# Altium footprint library IC_TPS25974ARPWR (1).PcbLib: 1 footprints
Each footprint in its own frame and in the unit in brackets; x right, y up, seen from the top. Pads: shape width x height; smd on the part's side, far side on the other; paste and mask are expansions set on the pad; w line width, h text height; cw(c..) or ccw(c..) is an arc to the next point about the centre after c.
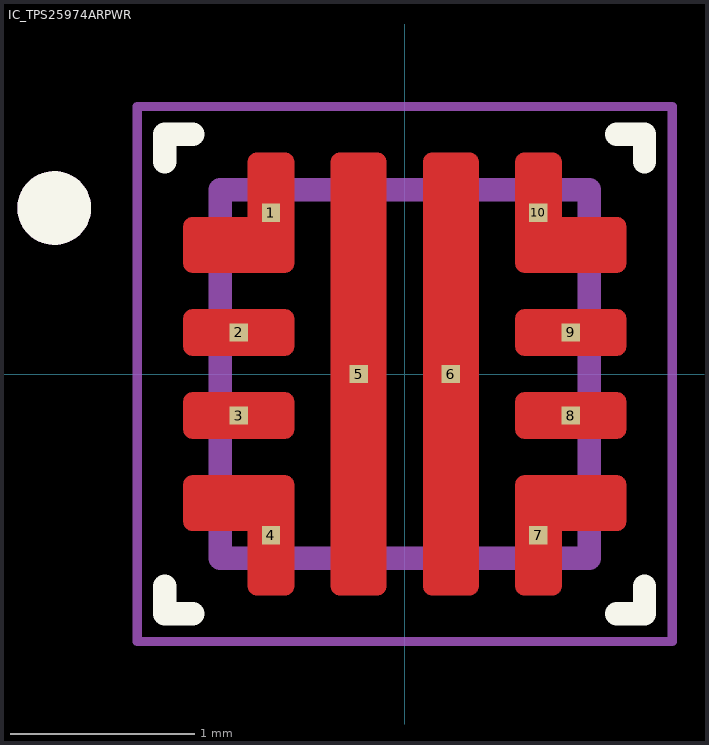
[diagram p0: the footprint, top view; thin cyan lines are the x and y axes]

## IC_TPS25974ARPWR [mm]
pads (10):
  rect 0.1x0.1 smd paste-1 mask+0: 1(-0.725,0.875) 2(-0.9,0.225) 3(-0.9,-0.225) 4(-0.725,-0.875) 5(-0.25,0) 6(0.25,0) 7(0.725,-0.875) 8(0.9,-0.225) 9(0.9,0.225) 10(0.725,0.875)
Top Layer:
  region: 0.358,1.199 0.36,1.199 0.363,1.198 0.365,1.198 0.368,1.197 0.37,1.196 0.373,1.195 0.375,1.193 0.377,1.192 0.379,1.19 0.381,1.189 0.383,1.187 0.385,1.185 0.387,1.183 0.389,1.181 0.39,1.179 0.392,1.177 0.393,1.175 0.395,1.173 0.396,1.17 0.397,1.168 0.398,1.165 0.398,1.163 0.399,1.16 0.399,1.158 0.4,1.155 0.4,1.153 0.4,1.15 0.4,-1.15 0.4,-1.153 0.4,-1.155 0.399,-1.158 0.399,-1.16 0.398,-1.163 0.398,-1.165 0.397,-1.168 0.396,-1.17 0.395,-1.173 0.393,-1.175 0.392,-1.177 0.39,-1.179 0.389,-1.181 0.387,-1.183 0.385,-1.185 0.383,-1.187 0.381,-1.189 0.379,-1.19 0.377,-1.192 0.375,-1.193 0.373,-1.195 0.37,-1.196 0.368,-1.197 0.365,-1.198 0.363,-1.198 0.36,-1.199 0.358,-1.199 0.355,-1.2 0.145,-1.2 0.142,-1.199 0.14,-1.199 0.137,-1.198 0.135,-1.198 0.132,-1.197 0.13,-1.196 0.127,-1.195 0.125,-1.193 0.123,-1.192 0.121,-1.19 0.119,-1.189 0.117,-1.187 0.115,-1.185 0.113,-1.183 0.111,-1.181 0.11,-1.179 0.108,-1.177 0.107,-1.175 0.105,-1.173 0.104,-1.17 0.103,-1.168 0.102,-1.165 0.102,-1.163 0.101,-1.16 0.101,-1.158 0.1,-1.155 0.1,-1.153 0.1,-1.15 0.1,1.15 0.1,1.153 0.1,1.155 0.101,1.158 0.101,1.16 0.102,1.163 0.102,1.165 0.103,1.168 0.104,1.17 0.105,1.173 0.107,1.175 0.108,1.177 0.11,1.179 0.111,1.181 0.113,1.183 0.115,1.185 0.117,1.187 0.119,1.189 0.121,1.19 0.123,1.192 0.125,1.193 0.127,1.195 0.13,1.196 0.132,1.197 0.135,1.198 0.137,1.198 0.14,1.199 0.142,1.199 0.145,1.2 0.355,1.2
  region: -0.142,1.199 -0.14,1.199 -0.137,1.198 -0.135,1.198 -0.132,1.197 -0.13,1.196 -0.127,1.195 -0.125,1.193 -0.123,1.192 -0.121,1.19 -0.119,1.189 -0.117,1.187 -0.115,1.185 -0.113,1.183 -0.111,1.181 -0.11,1.179 -0.108,1.177 -0.107,1.175 -0.105,1.173 -0.104,1.17 -0.103,1.168 -0.102,1.165 -0.102,1.163 -0.101,1.16 -0.101,1.158 -0.1,1.155 -0.1,1.153 -0.1,1.15 -0.1,-1.15 -0.1,-1.153 -0.1,-1.155 -0.101,-1.158 -0.101,-1.16 -0.102,-1.163 -0.102,-1.165 -0.103,-1.168 -0.104,-1.17 -0.105,-1.173 -0.107,-1.175 -0.108,-1.177 -0.11,-1.179 -0.111,-1.181 -0.113,-1.183 -0.115,-1.185 -0.117,-1.187 -0.119,-1.189 -0.121,-1.19 -0.123,-1.192 -0.125,-1.193 -0.127,-1.195 -0.13,-1.196 -0.132,-1.197 -0.135,-1.198 -0.137,-1.198 -0.14,-1.199 -0.142,-1.199 -0.145,-1.2 -0.355,-1.2 -0.358,-1.199 -0.36,-1.199 -0.363,-1.198 -0.365,-1.198 -0.368,-1.197 -0.37,-1.196 -0.373,-1.195 -0.375,-1.193 -0.377,-1.192 -0.379,-1.19 -0.381,-1.189 -0.383,-1.187 -0.385,-1.185 -0.387,-1.183 -0.389,-1.181 -0.39,-1.179 -0.392,-1.177 -0.393,-1.175 -0.395,-1.173 -0.396,-1.17 -0.397,-1.168 -0.398,-1.165 -0.398,-1.163 -0.399,-1.16 -0.399,-1.158 -0.4,-1.155 -0.4,-1.153 -0.4,-1.15 -0.4,1.15 -0.4,1.153 -0.4,1.155 -0.399,1.158 -0.399,1.16 -0.398,1.163 -0.398,1.165 -0.397,1.168 -0.396,1.17 -0.395,1.173 -0.393,1.175 -0.392,1.177 -0.39,1.179 -0.389,1.181 -0.387,1.183 -0.385,1.185 -0.383,1.187 -0.381,1.189 -0.379,1.19 -0.377,1.192 -0.375,1.193 -0.373,1.195 -0.37,1.196 -0.368,1.197 -0.365,1.198 -0.363,1.198 -0.36,1.199 -0.358,1.199 -0.355,1.2 -0.145,1.2
  region: -0.642,-0.551 -0.64,-0.551 -0.637,-0.552 -0.635,-0.552 -0.632,-0.553 -0.63,-0.554 -0.627,-0.555 -0.625,-0.557 -0.623,-0.558 -0.621,-0.56 -0.619,-0.561 -0.617,-0.563 -0.615,-0.565 -0.613,-0.567 -0.611,-0.569 -0.61,-0.571 -0.608,-0.573 -0.607,-0.575 -0.605,-0.577 -0.604,-0.58 -0.603,-0.582 -0.602,-0.585 -0.602,-0.587 -0.601,-0.59 -0.601,-0.592 -0.6,-0.595 -0.6,-0.597 -0.6,-0.6 -0.6,-1.15 -0.6,-1.153 -0.6,-1.155 -0.601,-1.158 -0.601,-1.16 -0.602,-1.163 -0.602,-1.165 -0.603,-1.168 -0.604,-1.17 -0.605,-1.173 -0.607,-1.175 -0.608,-1.177 -0.61,-1.179 -0.611,-1.181 -0.613,-1.183 -0.615,-1.185 -0.617,-1.187 -0.619,-1.189 -0.621,-1.19 -0.623,-1.192 -0.625,-1.193 -0.627,-1.195 -0.63,-1.196 -0.632,-1.197 -0.635,-1.198 -0.637,-1.198 -0.64,-1.199 -0.642,-1.199 -0.645,-1.2 -0.805,-1.2 -0.808,-1.199 -0.81,-1.199 -0.813,-1.198 -0.815,-1.198 -0.818,-1.197 -0.82,-1.196 -0.823,-1.195 -0.825,-1.193 -0.827,-1.192 -0.829,-1.19 -0.831,-1.189 -0.833,-1.187 -0.835,-1.185 -0.837,-1.183 -0.839,-1.181 -0.84,-1.179 -0.842,-1.177 -0.843,-1.175 -0.845,-1.173 -0.846,-1.17 -0.847,-1.168 -0.848,-1.165 -0.848,-1.163 -0.849,-1.16 -0.849,-1.158 -0.85,-1.155 -0.85,-1.153 -0.85,-1.15 -0.85,-0.85 -1.155,-0.85 -1.158,-0.849 -1.16,-0.849 -1.163,-0.848 -1.165,-0.848 -1.168,-0.847 -1.17,-0.846 -1.173,-0.845 -1.175,-0.843 -1.177,-0.842 -1.179,-0.84 -1.181,-0.839 -1.183,-0.837 -1.185,-0.835 -1.187,-0.833 -1.189,-0.831 -1.19,-0.829 -1.192,-0.827 -1.193,-0.825 -1.195,-0.823 -1.196,-0.82 -1.197,-0.818 -1.198,-0.815 -1.198,-0.813 -1.199,-0.81 -1.199,-0.808 -1.2,-0.805 -1.2,-0.803 -1.2,-0.8 -1.2,-0.6 -1.2,-0.597 -1.2,-0.595 -1.199,-0.592 -1.199,-0.59 -1.198,-0.587 -1.198,-0.585 -1.197,-0.582 -1.196,-0.58 -1.195,-0.577 -1.193,-0.575 -1.192,-0.573 -1.19,-0.571 -1.189,-0.569 -1.187,-0.567 -1.185,-0.565 -1.183,-0.563 -1.181,-0.561 -1.179,-0.56 -1.177,-0.558 -1.175,-0.557 -1.173,-0.555 -1.17,-0.554 -1.168,-0.553 -1.165,-0.552 -1.163,-0.552 -1.16,-0.551 -1.158,-0.551 -1.155,-0.55 -0.645,-0.55
  region: 0.808,1.199 0.81,1.199 0.813,1.198 0.815,1.198 0.818,1.197 0.82,1.196 0.823,1.195 0.825,1.193 0.827,1.192 0.829,1.19 0.831,1.189 0.833,1.187 0.835,1.185 0.837,1.183 0.839,1.181 0.84,1.179 0.842,1.177 0.843,1.175 0.845,1.173 0.846,1.17 0.847,1.168 0.848,1.165 0.848,1.163 0.849,1.16 0.849,1.158 0.85,1.155 0.85,1.153 0.85,1.15 0.85,0.85 1.155,0.85 1.158,0.849 1.16,0.849 1.163,0.848 1.165,0.848 1.168,0.847 1.17,0.846 1.173,0.845 1.175,0.843 1.177,0.842 1.179,0.84 1.181,0.839 1.183,0.837 1.185,0.835 1.187,0.833 1.189,0.831 1.19,0.829 1.192,0.827 1.193,0.825 1.195,0.823 1.196,0.82 1.197,0.818 1.198,0.815 1.198,0.813 1.199,0.81 1.199,0.808 1.2,0.805 1.2,0.803 1.2,0.8 1.2,0.6 1.2,0.597 1.2,0.595 1.199,0.592 1.199,0.59 1.198,0.587 1.198,0.585 1.197,0.582 1.196,0.58 1.195,0.577 1.193,0.575 1.192,0.573 1.19,0.571 1.189,0.569 1.187,0.567 1.185,0.565 1.183,0.563 1.181,0.561 1.179,0.56 1.177,0.558 1.175,0.557 1.173,0.555 1.17,0.554 1.168,0.553 1.165,0.552 1.163,0.552 1.16,0.551 1.158,0.551 1.155,0.55 0.645,0.55 0.642,0.551 0.64,0.551 0.637,0.552 0.635,0.552 0.632,0.553 0.63,0.554 0.627,0.555 0.625,0.557 0.623,0.558 0.621,0.56 0.619,0.561 0.617,0.563 0.615,0.565 0.613,0.567 0.611,0.569 0.61,0.571 0.608,0.573 0.607,0.575 0.605,0.577 0.604,0.58 0.603,0.582 0.602,0.585 0.602,0.587 0.601,0.59 0.601,0.592 0.6,0.595 0.6,0.597 0.6,0.6 0.6,1.15 0.6,1.153 0.6,1.155 0.601,1.158 0.601,1.16 0.602,1.163 0.602,1.165 0.603,1.168 0.604,1.17 0.605,1.173 0.607,1.175 0.608,1.177 0.61,1.179 0.611,1.181 0.613,1.183 0.615,1.185 0.617,1.187 0.619,1.189 0.621,1.19 0.623,1.192 0.625,1.193 0.627,1.195 0.63,1.196 0.632,1.197 0.635,1.198 0.637,1.198 0.64,1.199 0.642,1.199 0.645,1.2 0.805,1.2
  region: 1.158,-0.551 1.16,-0.551 1.163,-0.552 1.165,-0.552 1.168,-0.553 1.17,-0.554 1.173,-0.555 1.175,-0.557 1.177,-0.558 1.179,-0.56 1.181,-0.561 1.183,-0.563 1.185,-0.565 1.187,-0.567 1.189,-0.569 1.19,-0.571 1.192,-0.573 1.193,-0.575 1.195,-0.577 1.196,-0.58 1.197,-0.582 1.198,-0.585 1.198,-0.587 1.199,-0.59 1.199,-0.592 1.2,-0.595 1.2,-0.597 1.2,-0.6 1.2,-0.8 1.2,-0.803 1.2,-0.805 1.199,-0.808 1.199,-0.81 1.198,-0.813 1.198,-0.815 1.197,-0.818 1.196,-0.82 1.195,-0.823 1.193,-0.825 1.192,-0.827 1.19,-0.829 1.189,-0.831 1.187,-0.833 1.185,-0.835 1.183,-0.837 1.181,-0.839 1.179,-0.84 1.177,-0.842 1.175,-0.843 1.173,-0.845 1.17,-0.846 1.168,-0.847 1.165,-0.848 1.163,-0.848 1.16,-0.849 1.158,-0.849 1.155,-0.85 0.85,-0.85 0.85,-1.15 0.85,-1.153 0.85,-1.155 0.849,-1.158 0.849,-1.16 0.848,-1.163 0.848,-1.165 0.847,-1.168 0.846,-1.17 0.845,-1.173 0.843,-1.175 0.842,-1.177 0.84,-1.179 0.839,-1.181 0.837,-1.183 0.835,-1.185 0.833,-1.187 0.831,-1.189 0.829,-1.19 0.827,-1.192 0.825,-1.193 0.823,-1.195 0.82,-1.196 0.818,-1.197 0.815,-1.198 0.813,-1.198 0.81,-1.199 0.808,-1.199 0.805,-1.2 0.645,-1.2 0.642,-1.199 0.64,-1.199 0.637,-1.198 0.635,-1.198 0.632,-1.197 0.63,-1.196 0.627,-1.195 0.625,-1.193 0.623,-1.192 0.621,-1.19 0.619,-1.189 0.617,-1.187 0.615,-1.185 0.613,-1.183 0.611,-1.181 0.61,-1.179 0.608,-1.177 0.607,-1.175 0.605,-1.173 0.604,-1.17 0.603,-1.168 0.602,-1.165 0.602,-1.163 0.601,-1.16 0.601,-1.158 0.6,-1.155 0.6,-1.153 0.6,-1.15 0.6,-0.6 0.6,-0.597 0.6,-0.595 0.601,-0.592 0.601,-0.59 0.602,-0.587 0.602,-0.585 0.603,-0.582 0.604,-0.58 0.605,-0.577 0.607,-0.575 0.608,-0.573 0.61,-0.571 0.611,-0.569 0.613,-0.567 0.615,-0.565 0.617,-0.563 0.619,-0.561 0.621,-0.56 0.623,-0.558 0.625,-0.557 0.627,-0.555 0.63,-0.554 0.632,-0.553 0.635,-0.552 0.637,-0.552 0.64,-0.551 0.642,-0.551 0.645,-0.55 1.155,-0.55
  region: -0.642,1.199 -0.64,1.199 -0.637,1.198 -0.635,1.198 -0.632,1.197 -0.63,1.196 -0.627,1.195 -0.625,1.193 -0.623,1.192 -0.621,1.19 -0.619,1.189 -0.617,1.187 -0.615,1.185 -0.613,1.183 -0.611,1.181 -0.61,1.179 -0.608,1.177 -0.607,1.175 -0.605,1.173 -0.604,1.17 -0.603,1.168 -0.602,1.165 -0.602,1.163 -0.601,1.16 -0.601,1.158 -0.6,1.155 -0.6,1.153 -0.6,1.15 -0.6,0.6 -0.6,0.597 -0.6,0.595 -0.601,0.592 -0.601,0.59 -0.602,0.587 -0.602,0.585 -0.603,0.582 -0.604,0.58 -0.605,0.577 -0.607,0.575 -0.608,0.573 -0.61,0.571 -0.611,0.569 -0.613,0.567 -0.615,0.565 -0.617,0.563 -0.619,0.561 -0.621,0.56 -0.623,0.558 -0.625,0.557 -0.627,0.555 -0.63,0.554 -0.632,0.553 -0.635,0.552 -0.637,0.552 -0.64,0.551 -0.642,0.551 -0.645,0.55 -1.155,0.55 -1.158,0.551 -1.16,0.551 -1.163,0.552 -1.165,0.552 -1.168,0.553 -1.17,0.554 -1.173,0.555 -1.175,0.557 -1.177,0.558 -1.179,0.56 -1.181,0.561 -1.183,0.563 -1.185,0.565 -1.187,0.567 -1.189,0.569 -1.19,0.571 -1.192,0.573 -1.193,0.575 -1.195,0.577 -1.196,0.58 -1.197,0.582 -1.198,0.585 -1.198,0.587 -1.199,0.59 -1.199,0.592 -1.2,0.595 -1.2,0.597 -1.2,0.6 -1.2,0.8 -1.2,0.803 -1.2,0.805 -1.199,0.808 -1.199,0.81 -1.198,0.813 -1.198,0.815 -1.197,0.818 -1.196,0.82 -1.195,0.823 -1.193,0.825 -1.192,0.827 -1.19,0.829 -1.189,0.831 -1.187,0.833 -1.185,0.835 -1.183,0.837 -1.181,0.839 -1.179,0.84 -1.177,0.842 -1.175,0.843 -1.173,0.845 -1.17,0.846 -1.168,0.847 -1.165,0.848 -1.163,0.848 -1.16,0.849 -1.158,0.849 -1.155,0.85 -0.85,0.85 -0.85,1.15 -0.85,1.153 -0.85,1.155 -0.849,1.158 -0.849,1.16 -0.848,1.163 -0.848,1.165 -0.847,1.168 -0.846,1.17 -0.845,1.173 -0.843,1.175 -0.842,1.177 -0.84,1.179 -0.839,1.181 -0.837,1.183 -0.835,1.185 -0.833,1.187 -0.831,1.189 -0.829,1.19 -0.827,1.192 -0.825,1.193 -0.823,1.195 -0.82,1.196 -0.818,1.197 -0.815,1.198 -0.813,1.198 -0.81,1.199 -0.808,1.199 -0.805,1.2 -0.645,1.2
  region: 1.158,-0.101 1.16,-0.101 1.163,-0.102 1.165,-0.102 1.168,-0.103 1.17,-0.104 1.173,-0.105 1.175,-0.107 1.177,-0.108 1.179,-0.11 1.181,-0.111 1.183,-0.113 1.185,-0.115 1.187,-0.117 1.189,-0.119 1.19,-0.121 1.192,-0.123 1.193,-0.125 1.195,-0.127 1.196,-0.13 1.197,-0.132 1.198,-0.135 1.198,-0.137 1.199,-0.14 1.199,-0.142 1.2,-0.145 1.2,-0.147 1.2,-0.15 1.2,-0.3 1.2,-0.303 1.2,-0.305 1.199,-0.308 1.199,-0.31 1.198,-0.313 1.198,-0.315 1.197,-0.318 1.196,-0.32 1.195,-0.323 1.193,-0.325 1.192,-0.327 1.19,-0.329 1.189,-0.331 1.187,-0.333 1.185,-0.335 1.183,-0.337 1.181,-0.339 1.179,-0.34 1.177,-0.342 1.175,-0.343 1.173,-0.345 1.17,-0.346 1.168,-0.347 1.165,-0.348 1.163,-0.348 1.16,-0.349 1.158,-0.349 1.155,-0.35 0.645,-0.35 0.642,-0.349 0.64,-0.349 0.637,-0.348 0.635,-0.348 0.632,-0.347 0.63,-0.346 0.627,-0.345 0.625,-0.343 0.623,-0.342 0.621,-0.34 0.619,-0.339 0.617,-0.337 0.615,-0.335 0.613,-0.333 0.611,-0.331 0.61,-0.329 0.608,-0.327 0.607,-0.325 0.605,-0.323 0.604,-0.32 0.603,-0.318 0.602,-0.315 0.602,-0.313 0.601,-0.31 0.601,-0.308 0.6,-0.305 0.6,-0.303 0.6,-0.3 0.6,-0.15 0.6,-0.147 0.6,-0.145 0.601,-0.142 0.601,-0.14 0.602,-0.137 0.602,-0.135 0.603,-0.132 0.604,-0.13 0.605,-0.127 0.607,-0.125 0.608,-0.123 0.61,-0.121 0.611,-0.119 0.613,-0.117 0.615,-0.115 0.617,-0.113 0.619,-0.111 0.621,-0.11 0.623,-0.108 0.625,-0.107 0.627,-0.105 0.63,-0.104 0.632,-0.103 0.635,-0.102 0.637,-0.102 0.64,-0.101 0.642,-0.101 0.645,-0.1 1.155,-0.1
  region: 1.158,0.349 1.16,0.349 1.163,0.348 1.165,0.348 1.168,0.347 1.17,0.346 1.173,0.345 1.175,0.343 1.177,0.342 1.179,0.34 1.181,0.339 1.183,0.337 1.185,0.335 1.187,0.333 1.189,0.331 1.19,0.329 1.192,0.327 1.193,0.325 1.195,0.323 1.196,0.32 1.197,0.318 1.198,0.315 1.198,0.313 1.199,0.31 1.199,0.308 1.2,0.305 1.2,0.303 1.2,0.3 1.2,0.15 1.2,0.147 1.2,0.145 1.199,0.142 1.199,0.14 1.198,0.137 1.198,0.135 1.197,0.132 1.196,0.13 1.195,0.127 1.193,0.125 1.192,0.123 1.19,0.121 1.189,0.119 1.187,0.117 1.185,0.115 1.183,0.113 1.181,0.111 1.179,0.11 1.177,0.108 1.175,0.107 1.173,0.105 1.17,0.104 1.168,0.103 1.165,0.102 1.163,0.102 1.16,0.101 1.158,0.101 1.155,0.1 0.645,0.1 0.642,0.101 0.64,0.101 0.637,0.102 0.635,0.102 0.632,0.103 0.63,0.104 0.627,0.105 0.625,0.107 0.623,0.108 0.621,0.11 0.619,0.111 0.617,0.113 0.615,0.115 0.613,0.117 0.611,0.119 0.61,0.121 0.608,0.123 0.607,0.125 0.605,0.127 0.604,0.13 0.603,0.132 0.602,0.135 0.602,0.137 0.601,0.14 0.601,0.142 0.6,0.145 0.6,0.147 0.6,0.15 0.6,0.3 0.6,0.303 0.6,0.305 0.601,0.308 0.601,0.31 0.602,0.313 0.602,0.315 0.603,0.318 0.604,0.32 0.605,0.323 0.607,0.325 0.608,0.327 0.61,0.329 0.611,0.331 0.613,0.333 0.615,0.335 0.617,0.337 0.619,0.339 0.621,0.34 0.623,0.342 0.625,0.343 0.627,0.345 0.63,0.346 0.632,0.347 0.635,0.348 0.637,0.348 0.64,0.349 0.642,0.349 0.645,0.35 1.155,0.35
  region: -0.642,-0.101 -0.64,-0.101 -0.637,-0.102 -0.635,-0.102 -0.632,-0.103 -0.63,-0.104 -0.627,-0.105 -0.625,-0.107 -0.623,-0.108 -0.621,-0.11 -0.619,-0.111 -0.617,-0.113 -0.615,-0.115 -0.613,-0.117 -0.611,-0.119 -0.61,-0.121 -0.608,-0.123 -0.607,-0.125 -0.605,-0.127 -0.604,-0.13 -0.603,-0.132 -0.602,-0.135 -0.602,-0.137 -0.601,-0.14 -0.601,-0.142 -0.6,-0.145 -0.6,-0.147 -0.6,-0.15 -0.6,-0.3 -0.6,-0.303 -0.6,-0.305 -0.601,-0.308 -0.601,-0.31 -0.602,-0.313 -0.602,-0.315 -0.603,-0.318 -0.604,-0.32 -0.605,-0.323 -0.607,-0.325 -0.608,-0.327 -0.61,-0.329 -0.611,-0.331 -0.613,-0.333 -0.615,-0.335 -0.617,-0.337 -0.619,-0.339 -0.621,-0.34 -0.623,-0.342 -0.625,-0.343 -0.627,-0.345 -0.63,-0.346 -0.632,-0.347 -0.635,-0.348 -0.637,-0.348 -0.64,-0.349 -0.642,-0.349 -0.645,-0.35 -1.155,-0.35 -1.158,-0.349 -1.16,-0.349 -1.163,-0.348 -1.165,-0.348 -1.168,-0.347 -1.17,-0.346 -1.173,-0.345 -1.175,-0.343 -1.177,-0.342 -1.179,-0.34 -1.181,-0.339 -1.183,-0.337 -1.185,-0.335 -1.187,-0.333 -1.189,-0.331 -1.19,-0.329 -1.192,-0.327 -1.193,-0.325 -1.195,-0.323 -1.196,-0.32 -1.197,-0.318 -1.198,-0.315 -1.198,-0.313 -1.199,-0.31 -1.199,-0.308 -1.2,-0.305 -1.2,-0.303 -1.2,-0.3 -1.2,-0.15 -1.2,-0.147 -1.2,-0.145 -1.199,-0.142 -1.199,-0.14 -1.198,-0.137 -1.198,-0.135 -1.197,-0.132 -1.196,-0.13 -1.195,-0.127 -1.193,-0.125 -1.192,-0.123 -1.19,-0.121 -1.189,-0.119 -1.187,-0.117 -1.185,-0.115 -1.183,-0.113 -1.181,-0.111 -1.179,-0.11 -1.177,-0.108 -1.175,-0.107 -1.173,-0.105 -1.17,-0.104 -1.168,-0.103 -1.165,-0.102 -1.163,-0.102 -1.16,-0.101 -1.158,-0.101 -1.155,-0.1 -0.645,-0.1
  region: -0.642,0.349 -0.64,0.349 -0.637,0.348 -0.635,0.348 -0.632,0.347 -0.63,0.346 -0.627,0.345 -0.625,0.343 -0.623,0.342 -0.621,0.34 -0.619,0.339 -0.617,0.337 -0.615,0.335 -0.613,0.333 -0.611,0.331 -0.61,0.329 -0.608,0.327 -0.607,0.325 -0.605,0.323 -0.604,0.32 -0.603,0.318 -0.602,0.315 -0.602,0.313 -0.601,0.31 -0.601,0.308 -0.6,0.305 -0.6,0.303 -0.6,0.3 -0.6,0.15 -0.6,0.147 -0.6,0.145 -0.601,0.142 -0.601,0.14 -0.602,0.137 -0.602,0.135 -0.603,0.132 -0.604,0.13 -0.605,0.127 -0.607,0.125 -0.608,0.123 -0.61,0.121 -0.611,0.119 -0.613,0.117 -0.615,0.115 -0.617,0.113 -0.619,0.111 -0.621,0.11 -0.623,0.108 -0.625,0.107 -0.627,0.105 -0.63,0.104 -0.632,0.103 -0.635,0.102 -0.637,0.102 -0.64,0.101 -0.642,0.101 -0.645,0.1 -1.155,0.1 -1.158,0.101 -1.16,0.101 -1.163,0.102 -1.165,0.102 -1.168,0.103 -1.17,0.104 -1.173,0.105 -1.175,0.107 -1.177,0.108 -1.179,0.11 -1.181,0.111 -1.183,0.113 -1.185,0.115 -1.187,0.117 -1.189,0.119 -1.19,0.121 -1.192,0.123 -1.193,0.125 -1.195,0.127 -1.196,0.13 -1.197,0.132 -1.198,0.135 -1.198,0.137 -1.199,0.14 -1.199,0.142 -1.2,0.145 -1.2,0.147 -1.2,0.15 -1.2,0.3 -1.2,0.303 -1.2,0.305 -1.199,0.308 -1.199,0.31 -1.198,0.313 -1.198,0.315 -1.197,0.318 -1.196,0.32 -1.195,0.323 -1.193,0.325 -1.192,0.327 -1.19,0.329 -1.189,0.331 -1.187,0.333 -1.185,0.335 -1.183,0.337 -1.181,0.339 -1.179,0.34 -1.177,0.342 -1.175,0.343 -1.173,0.345 -1.17,0.346 -1.168,0.347 -1.165,0.348 -1.163,0.348 -1.16,0.349 -1.158,0.349 -1.155,0.35 -0.645,0.35
Top Overlay:
  circle w0.2: c-1.9,0.9 r0.1
  lines w0.127: -1.3,-1.15 -1.3,-1.3 -1.15,-1.3 ; -1.3,1.15 -1.3,1.3 -1.15,1.3 ; 1.15,-1.3 1.3,-1.3 1.3,-1.15 ; 1.15,1.3 1.3,1.3 1.3,1.15
Top Paste:
  drawing of 12 lines, arcs and shapes, not listed
Top Solder:
  drawing of 10 lines, arcs and shapes, not listed
Assembly Top:
  circle w0.2: c-1.9,0.9 r0.1
  lines w0.127: -1,-1 1,-1 1,1 -1,1 -1,-1
Courtyard Top:
  lines w0.05: -1.45,-1.45 1.45,-1.45 1.45,1.45 -1.45,1.45 -1.45,-1.45
3D body "step_temp.STEP": height 1, standoff 0, extent -1,-1 1,1